# Altium schematic symbol library 2019-07-23_04-39-10.SchLib: 2 symbols
Pins are listed as number, name and electrical type; pins without a type are passive.

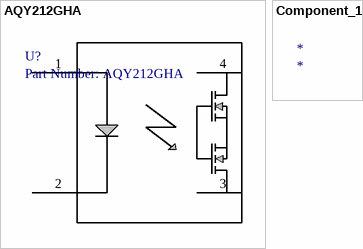
[diagram p0: symbols AQY212GHA to Component_1]

## AQY212GHA
designator U?, comment Part Number: AQY212GHA
No Description Available; Vendor: Panasonic; Built_By: EMA_UL_Team; Manufacturer_Part_Number: AQY212GHA; Copyright: Copyright (C) 2018 Accelerated Designs. All rights reserved; RefDes: RefDes; Type: DEV; Value: Value
footprint PAN_AQY21-SO4
pins: 1, 2, 3, 4

## Component_1
designator *